# Altium schematic symbol library MB0035A.01.A.1.SchLib: 1 symbol
Pins are listed as number, name and electrical type; pins without a type are passive.

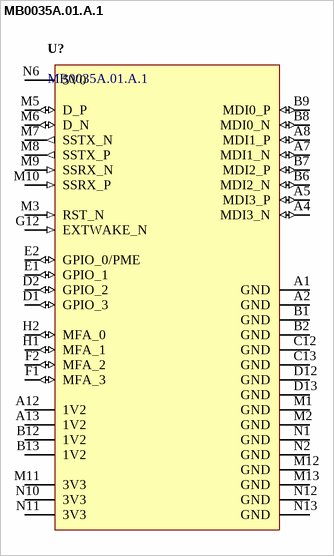
[diagram p0: symbol MB0035A.01.A.1]

## MB0035A.01.A.1
designator U?
pins: A1 GND (power), A2 GND (power), A4 MDI3_N (io), A5 MDI3_P (io), A7 MDI1_N (io), A8 MDI1_P (io), A12 1V2 (power), A13 1V2 (power), B1 GND (power), B2 GND (power), B6 MDI2_N (io), B7 MDI2_P (io), B8 MDI0_N (io), B9 MDI0_P (io), B12 1V2 (power), B13 1V2 (power), C12 GND (power), C13 GND (power), D1 GPIO_3 (io), D2 GPIO_2 (io), D12 GND (power), D13 GND (power), E1 GPIO_1 (io), E2 GPIO_0/PME (io), F1 MFA_3 (io), F2 MFA_2 (io), G12 EXTWAKE_N (in), H1 MFA_1 (io), H2 MFA_0 (io), M1 GND (power), M2 GND (power), M3 RST_N (in), M5 D_P (io), M6 D_N (io), M7 SSTX_N (out), M8 SSTX_P (out), M9 SSRX_N (in), M10 SSRX_P (in), M11 3V3 (power), M12 GND (power), M13 GND (power), N1 GND (power), N2 GND (power), N6 5V0 (power), N10 3V3 (power), N11 3V3 (power), N12 GND (power), N13 GND (power)